# EAGLE library part B_SERIES_M.2EKEY_ (library Particle-Devices)
Particle B Series SoM 3042 M.2 Connector with E Key Width = 30mm Length = 42mm Height = 4.2mm Key = E
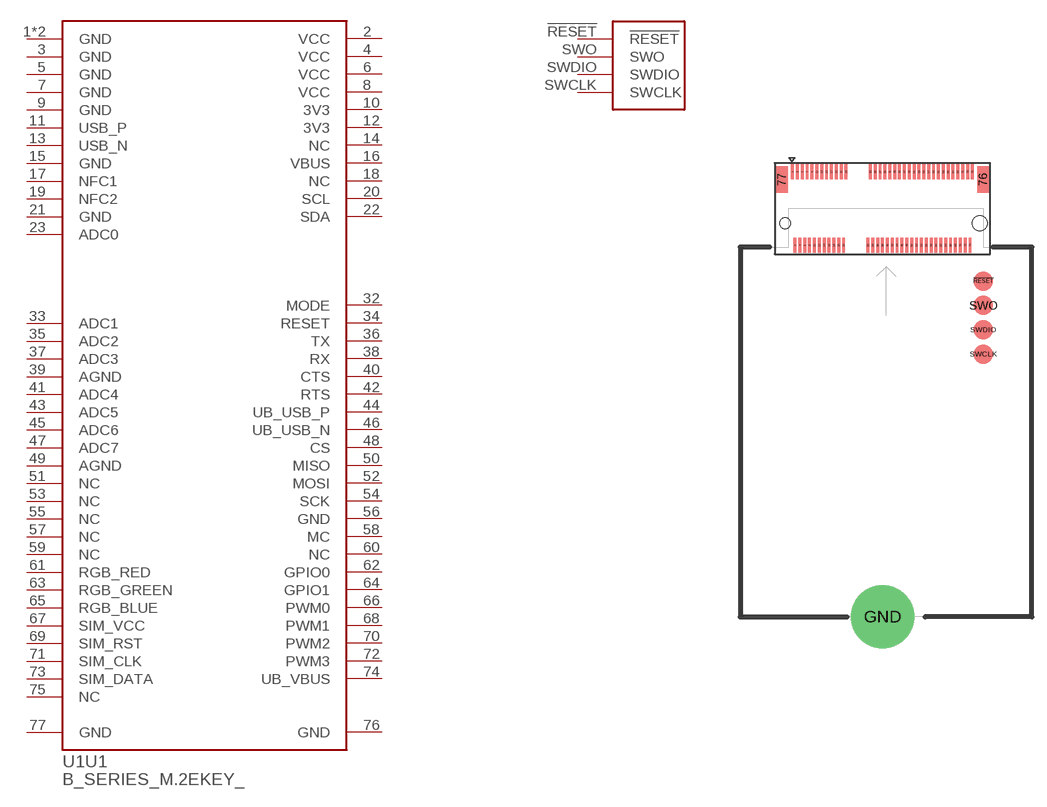
[diagram p8: symbol with the pads of PARTICLE_M.2EKEY; footprint PARTICLE_M.2EKEY]

Designator prefix U1; gates U1=B_SERIES_M.2EKEY G$1=B_SERIES_SWD

## B_SERIES_M.2EKEY_3042  [PARTICLE_M.2EKEY]
1  U1:GND  pwr
2  U1:VCC  pwr
3  U1:GND  pwr
4  U1:VCC  pwr
5  U1:GND  pwr
6  U1:VCC  pwr
7  U1:GND  pwr
8  U1:VCC  pwr
9  U1:GND  pwr
10  U1:3V3  pwr
11  U1:USB_P
12  U1:3V3  pwr
13  U1:USB_N
14  U1:NC
15  U1:GND  pwr
16  U1:VBUS  pwr
17  U1:NFC1
18  U1:NC
19  U1:NFC2
20  U1:SCL
21  U1:GND  pwr
22  U1:SDA
23  U1:ADC0
32  U1:MODE
33  U1:ADC1
34  U1:RESET
35  U1:ADC2
36  U1:TX
37  U1:ADC3
38  U1:RX
39  U1:AGND  pwr
40  U1:CTS
41  U1:ADC4
42  U1:RTS
43  U1:ADC5
44  U1:UB_USB_P
45  U1:ADC6
46  U1:UB_USB_N
47  U1:ADC7
48  U1:CS
49  U1:AGND  pwr
50  U1:MISO
51  U1:NC
52  U1:MOSI
53  U1:NC
54  U1:SCK
55  U1:NC
56  U1:GND  pwr
57  U1:NC
58  U1:MC
59  U1:NC
60  U1:NC
61  U1:RGB_RED
62  U1:GPIO0
63  U1:RGB_GREEN
64  U1:GPIO1
65  U1:RGB_BLUE
66  U1:PWM0
67  U1:SIM_VCC  pwr
68  U1:PWM1
69  U1:SIM_RST
70  U1:PWM2
71  U1:SIM_CLK
72  U1:PWM3
73  U1:SIM_DATA
74  U1:UB_VBUS  pwr
75  U1:NC
76  U1:GND  pwr
77  U1:GND  pwr
!RESET  G$1:!RESET  sup
GND  U1:GND  pwr
SWCLK  G$1:SWCLK  sup
SWDIO  G$1:SWDIO  sup
SWO  G$1:SWO  sup

## Footprint PARTICLE_M.2EKEY (pad centres in mm)
3042 M.2 Connector with E Key Width = 30mm Length = 42mm Height = 4.2mm Key = E
smd 0.3 x 1.55: 1 -9.62,3.735; 2 -9.37,-3.815; 3 -9.12,3.735; 4 -8.87,-3.815; 5 -8.62,3.735; 6 -8.37,-3.815; 7 -8.12,3.735; 8 -7.87,-3.815; 9 -7.62,3.735; 10 -7.37,-3.815; 11 -7.12,3.735; 12 -6.87,-3.815; 13 -6.62,3.735; 14 -6.37,-3.815; 15 -6.12,3.735; 16 -5.87,-3.815; 17 -5.62,3.735; 18 -5.37,-3.815; 19 -5.12,3.735; 20 -4.87,-3.815; 21 -4.62,3.735; 22 -4.37,-3.815; 23 -4.12,3.735; 32 -1.87,-3.815; 33 -1.62,3.735; 34 -1.37,-3.815; 35 -1.12,3.735; 36 -0.87,-3.815; 37 -0.62,3.735; 38 -0.37,-3.815; 39 -0.12,3.735; 40 0.13,-3.815; 41 0.38,3.735; 42 0.63,-3.815; 43 0.88,3.735; 44 1.13,-3.815; 45 1.38,3.735; 46 1.63,-3.815; 47 1.88,3.735; 48 2.13,-3.815; 49 2.38,3.735; 50 2.63,-3.815; 51 2.88,3.735; 52 3.13,-3.815; 53 3.38,3.735; 54 3.63,-3.815; 55 3.88,3.735; 56 4.13,-3.815; 57 4.38,3.735; 58 4.63,-3.815; 59 4.88,3.735; 60 5.13,-3.815; 61 5.38,3.735; 62 5.63,-3.815; 63 5.88,3.735; 64 6.13,-3.815; 65 6.38,3.735; 66 6.63,-3.815; 67 6.88,3.735; 68 7.13,-3.815; 69 7.38,3.735; 70 7.63,-3.815; 71 7.88,3.735; 72 8.13,-3.815; 73 8.38,3.735; 74 8.63,-3.815; 75 8.88,3.735
smd 1.2 x 2.75: 76 9.98,2.96; 77 -10.72,2.96
smd 2 x 2: !RESET 10,-7.5; SWCLK 10,-15; SWDIO 10,-12.5; SWO 10,-10
drill 2.6 pad 6.5: GND -0.351,-42
hole 1.1 at -10.37,-1.54
hole 1.55 at 9.63,-1.54